# Altium schematic symbol library ETS_Library.SchLib: 127 symbols (part 1 of 3)
Pins are listed as number, name and electrical type; pins without a type are passive.

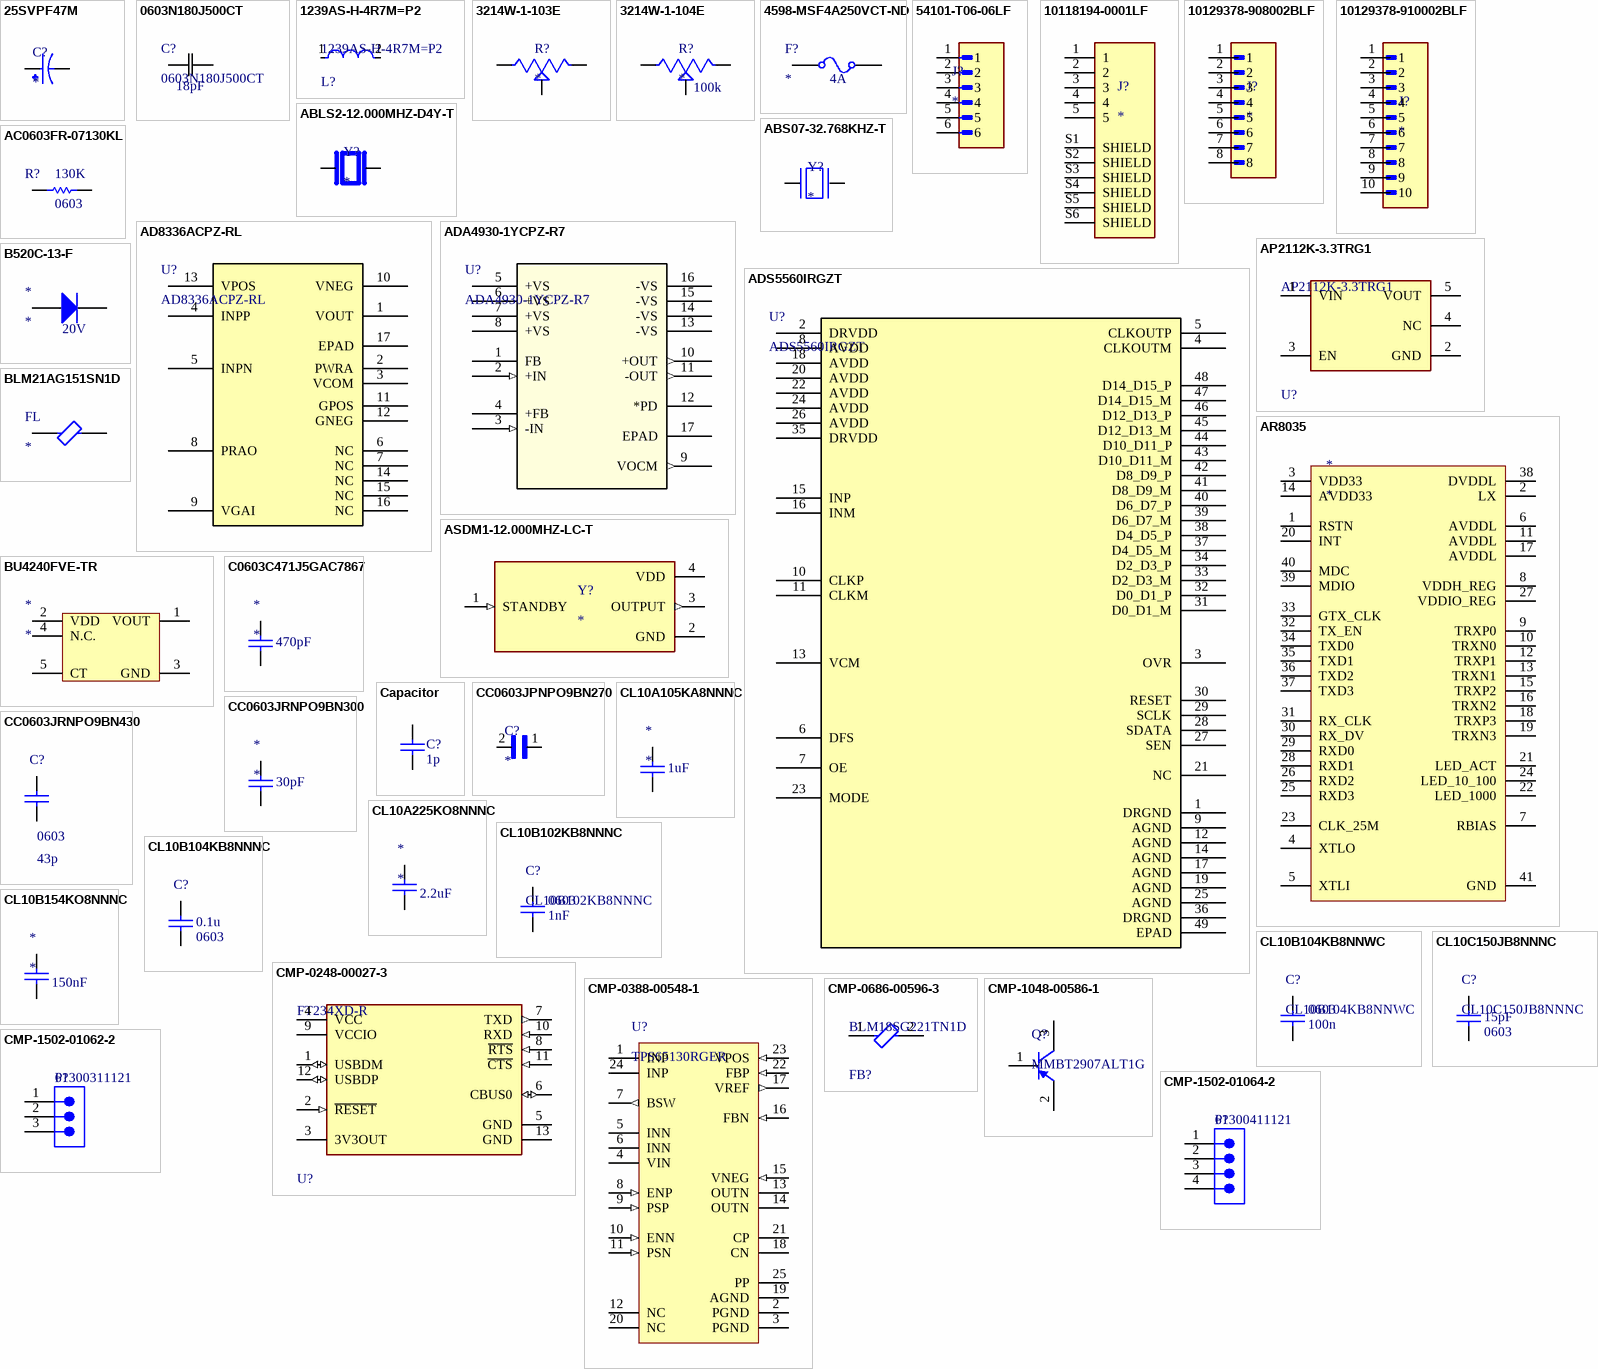
[diagram p0: symbols 25SVPF47M to CMP-1502-01064-2]

## 25SVPF47M
designator C?
MP: 25SVPF47M; Package: None; Availability: Unavailable; Value: *; Price: None
footprint CAP_25SVPF47M
pins: 1, 2

## 0603N180J500CT
designator C?  value 18pF
CAP CER 18PF 50V C0G/NP0 0603; Mfr_Name: Walsin; Type: DEV; Copyright: Copyright (C) 2024 Ultra Librarian. All rights reserved.; Manufacturer_Part_Number: 0603N180J500CT; RefDes: RefDes
footprint CAP_0603_S_WAL
pins: 1, 2

## 1239AS-H-4R7M=P2
designator L?
Shielded Wirewound Inductor 4.7uH 20% 1300mA 0.24Ω 1008 (2520); Current Rating: 1.5A; Core Material: Ferrite; DC Resistance (DCR): 240mR; Test Frequency: 1MHz; Resistor Type: Wirewound; Mount: Surface Mount; Case/Package: 1008; Case Code (Metric): 2520; Inductance: 4.7uH; Width: 0.079inch; Min Operating Temperature: -40°C; Height - Seated (Max): 0.047inch; Length: 0.098inch; Max Operating Temperature: 85°C; Tolerance: 20%; Case Code (Imperial): 1008; Shielding: Shielded; Packaging: Tape and Reel
footprint FP-DFE252012C-MFG
pins: 1, 2

## 3214W-1-103E
designator R?
10 kOhms 0.25W, 1/4W J Lead Surface Mount Trimmer Potentiometer Cermet 5.0 Turn Top Adjustment; MP: 3214W-1-103E; MF: Bourns; Value: *; SnapEDA_Link: https://www.snapeda.com/parts/3214W-1-103E/Bourns/view-part/?ref=snap; Check_prices: https://www.snapeda.com/parts/3214W-1-103E/Bourns/view-part/?ref=eda; Availability: In Stock; Price: None; Purchase-URL: https://pricing.snapeda.com/search/part/3214W-1-103E/?ref=eda; Package: NON STANDARD Bourns
footprint TRIM_3214W-1-103E
pins: 1 CCW, 2 WIPER, 3 CW

## 3214W-1-104E
designator R?  value 100k
TRIMMER 100KOHM 0.25W J LEAD TOP; MF: Bourns; MP: 3214W-1-104E; Digi-Key_Part_Number: 3214W-104ETR-ND; Package: NON STANDARD Bourns; SnapEDA_Link: https://www.snapeda.com/parts/3214W-1-104E/Bourns/view-part/?ref=snap; Purchase-URL: https://pricing.snapeda.com/search/part/3214W-1-104E/?ref=eda; Check_prices: https://www.snapeda.com/parts/3214W-1-104E/Bourns/view-part/?ref=eda
footprint TRIM_3214W-1-104E
pins: 1 CCW, 2 WIPER, 3 CW

## 4598-MSF4A250VCT-ND
designator F?  Current: 4A
MSF 4A 250V; Manufacturer: Schurter; Manufacturer Part Number: 0034.6020; Body Material: Thermoplastic; Material: Copper,Tin,Plastic; Fuse Type: Board Mount (Cartridge Style Excluded); Max Power Dissipation: 1.68W; Dropout Voltage: 60mV; Fuse Size: 8.5 X 8.5mm; Wire/Cable Diameter: 0.64mm; Body Diameter: 8.5mm; Lead Length: 4.3mm; Approvals: UL,CSA,IEC,EN; Supplier: Avnet; Supplier Part Number: 31C2026; RoHS: Yes; Category: Fuses; Stock: 824; Pricing: 1=0.503, 10=0.486, 25=0.469 (USD); Mounting Technology: Through Hole,PCB; Case/Package: Radial; Pins: 2; Weight: 0.014815oz; Housing Material: Thermoplastic; Min Operating Temperature: -55°C; Max Operating Temperature: 85°C; Current Rating: 4A; Voltage Rating (AC): 250V; Voltage Rating: 250V; Voltage Rating (DC): 250V; Package Quantity: 100; Termination: Radial; Series: MSF 250; Packaging: Bulk; Fuse Current: 4A; Max Voltage Rating (AC): 250V; Max Voltage Rating (DC): 250V; Power Dissipation: 1.68W; Length: 0.335inch; Body Height: 8.5mm; Radiation Hardening: No; Lead Free: Lead Free; Flammability Rating: UL94 V-0; RoHS Compliant: Yes; Reach SVHC Compliant: No; ComponentLink1URL: https://datasheet.ciiva.com/14171/uqmsf250-data-e-14171926.pdf?src-supplier=Distrelec; ComponentLink1Description: https://datasheet.ciiva.com/14171/uqmsf250-data-e-14171926.pdf?src-supplier=Distrelec; ComponentLink2URL: https://datasheet.ciiva.com/14537/70160027-14537274.pdf?src-supplier=Allied+Electronics; ComponentLink2Description: https://datasheet.ciiva.com/14537/70160027-14537274.pdf?src-supplier=Allied+Electronics; ComponentLink3URL: https://datasheet.ciiva.com/16214/typ-msf-250-16214554.pdf?src-supplier=Onlinecomponents.com; ComponentLink3Description: https://datasheet.ciiva.com/16214/typ-msf-250-16214554.pdf?src-supplier=Onlinecomponents.com; ComponentLink4URL: https://datasheet.ciiva.com/30173/typ-msf-250-30173325.pdf?src-supplier=Onlinecomponents.com; ComponentLink4Description: https://datasheet.ciiva.com/30173/typ-msf-250-30173325.pdf?src-supplier=Onlinecomponents.com; ComponentLink5URL: https://datasheet.ciiva.com/8055/1348407-8055852.pdf?src-supplier=Element14; ComponentLink5Description: https://datasheet.ciiva.com/8055/1348407-8055852.pdf?src-supplier=Element14; ComponentLink6URL: https://datasheet.ciiva.com/26837/getdatasheetpartid-420672-26837350.pdf?src-supplier=Verical; ComponentLink6Description: https://datasheet.ciiva.com/26837/getdatasheetpartid-420672-26837350.pdf?src-supplier=Verical; ComponentLink7URL: https://datasheet.ciiva.com/3017/typ-msf-250-3017129.pdf?src-supplier=Avnet; ComponentLink7Description: https://datasheet.ciiva.com/3017/typ-msf-250-3017129.pdf?src-supplier=Avnet
footprint MSF 4A 250V
pins: 1, 2

## 54101-T06-06LF
designator J?
BergStikÂ®, Board to Board connector, Unshrouded vertical Header, Through Hole, Single Row, 6 Positions, 2.54 mm Pitch.; MP: 54101-T06-06LF; MF: Amphenol ICC (FCI); Purchase-URL: https://pricing.snapeda.com/search/part/54101-T06-06LF/?ref=eda; SnapEDA_Link: https://www.snapeda.com/parts/54101-T06-06LF/Amphenol+FCI/view-part/?ref=snap; Value: *; Package: None; Price: None; Availability: In Stock; Check_prices: https://www.snapeda.com/parts/54101-T06-06LF/Amphenol+FCI/view-part/?ref=eda
footprint AMPHENOL_54101-T06-06LF
pins: 1, 2, 3, 4, 5, 6

## 10118194-0001LF
designator J?
Micro USB, Input Output Connectors, B TYPE RECEPTACLE with flange; MF: Amphenol ICC; MP: 10118194-0001LF; Package: None; Price: None; Check_prices: https://www.snapeda.com/parts/10118194-0001LF/Amphenol+FCI/view-part/?ref=eda; Value: *; SnapEDA_Link: https://www.snapeda.com/parts/10118194-0001LF/Amphenol+FCI/view-part/?ref=snap; Availability: In Stock; Purchase-URL: https://pricing.snapeda.com/search/part/10118194-0001LF/?ref=eda
footprint AMPHENOL_10118194-0001LF
pins: 1, 2, 3, 4, 5, S1 SHIELD, S2 SHIELD, S3 SHIELD, S4 SHIELD, S5 SHIELD, S6 SHIELD

## 10129378-908002BLF
designator J?
EconoStik&trade; 2.54mm, Board to Board Connector, Unshrouded Verticl Header, Through Hole, Single Row, 8 Positions, 2.54 mm (0.100in) Pitch.; MF: Amphenol; MP: 10129378-908002BLF; SnapEDA_Link: https://www.snapeda.com/parts/10129378-908002BLF/Amphenol/view-part/?ref=snap; Package: None; Value: *; Check_prices: https://www.snapeda.com/parts/10129378-908002BLF/Amphenol/view-part/?ref=eda
footprint AMPHENOL_10129378-908002BLF
pins: 1, 2, 3, 4, 5, 6, 7, 8

## 10129378-910002BLF
designator J?
MP: 10129378-910002BLF; Package: None; Price: None; Value: *; Availability: Unavailable
footprint AMPHENOL_10129378-910002BLF
pins: 1, 2, 3, 4, 5, 6, 7, 8, 9, 10

## ABLS2-12.000MHZ-D4Y-T
designator Y?
HC/49US (AT49) LOW PROFILE SURFACE MOUNT MICROPROCESSOR CRYSTAL; MP: ABLS2-12.000MHZ-D4Y-T; MF: Abracon; Purchase-URL: https://pricing.snapeda.com/search/part/ABLS2-12.000MHZ-D4Y-T/?ref=eda; Package: HC49/US Abracon; Value: *; Price: None; Availability: In Stock; SnapEDA_Link: https://www.snapeda.com/parts/ABLS2-12.000MHZ-D4Y-T/Abracon+LLC/view-part/?ref=snap; Check_prices: https://www.snapeda.com/parts/ABLS2-12.000MHZ-D4Y-T/Abracon+LLC/view-part/?ref=eda
footprint XTAL_ABLS2-12.000MHZ-D4Y-T
pins: 1, 2

## ABS07-32.768KHZ-T
designator Y?
CRYSTAL 32.7680KHZ 12.5PF SMD; MF: Abracon; MP: ABS07-32.768KHZ-T; SnapEDA_Link: https://www.snapeda.com/parts/ABS07-32.768KHZ-T/Abracon+LLC/view-part/?ref=snap; Package: SMD-2 Abracon LLC; Value: *; Check_prices: https://www.snapeda.com/parts/ABS07-32.768KHZ-T/Abracon+LLC/view-part/?ref=eda
footprint XTAL_ABS07-32.768KHZ-T
pins: 1, 2

## AC0603FR-07130KL
designator R?  value 130K  Case/Package: 0603  (hidden comment: AC0603FR-07130KL)
RES SMD 130K OHM 1% 1/10W 0603; ComponentLink1URL: https://datasheet.ciiva.com:443/pdfs/VipMasterIC/IC/YAGO/YAGO-S-A0008145938/YAGO-S-A0008145938-1.pdf?src-supplier=IHS+Markit; ComponentLink1Description: https://datasheet.ciiva.com:443/pdfs/VipMasterIC/IC/YAGO/YAGO-S-A0008145938/YAGO-S-A0008145938-1.pdf?src-supplier=IHS+Markit; Supplier 1: Avnet; Supplier Part Number 1: 58AK8937
footprint R0603 (Chip Resistor, 2-Leads, Body 1.60x0.80mm, IPC Low Density)
pins: 1, 2

## AD8336ACPZ-RL
designator U?
General-Purpose, âˆ’55Â°C to +125Â°C, Wide Bandwidth, DC-Coupled VGA; Manufacturer_Name: Analog Devices Inc; Copyright: Copyright (C) 2025 Ultra Librarian. All rights reserved.; Manufacturer_Part_Number: AD8336ACPZ-RL; Datasheet: https://www.analog.com/media/en/technical-documentation/data-sheets/AD8336.pdf; RefDes: RefDes; Type: Type
footprint CP_16_4_ADI
pins: 1 VOUT, 2 PWRA, 3 VCOM, 4 INPP, 5 INPN, 6 NC, 7 NC, 8 PRAO, 9 VGAI, 10 VNEG, 11 GPOS, 12 GNEG, 13 VPOS, 14 NC, 15 NC, 16 NC, 17 EPAD

## ADA4930-1YCPZ-R7
designator U?
IC OPAMP DIFF 1 CIRCUIT 16LFCSP; Mfr_Name: Analog Devices Inc; RefDes: RefDes; Type: Type
footprint CP_16_35_ADI
pins: 1 FB, 2 +IN (in), 3 -IN (in), 4 +FB, 5 +VS (power), 6 +VS (power), 7 +VS (power), 8 +VS (power), 9 VOCM (out), 10 +OUT (out), 11 -OUT (out), 12 *PD, 13 -VS (power), 14 -VS (power), 15 -VS (power), 16 -VS (power), 17 EPAD

## ADS5560IRGZT
designator U?
16-Bit, 40-MSPS Analog-to-Digital Converter (ADC) 48-VQFN -40 to 85; Manufacturer_Name: Texas Instruments; Copyright: Copyright (C) 2025 Ultra Librarian. All rights reserved.; Manufacturer_Part_Number: ADS5560IRGZT; Datasheet: https://www.ti.com/lit/gpn/ads5560; RefDes: RefDes; Type: Type
footprint RGZ48_5P15X5P15
pins: 1 DRGND, 2 DRVDD, 3 OVR, 4 CLKOUTM, 5 CLKOUTP, 6 DFS, 7 OE, 8 AVDD, 9 AGND, 10 CLKP, 11 CLKM, 12 AGND, 13 VCM, 14 AGND, 15 INP, 16 INM, 17 AGND, 18 AVDD, 19 AGND, 20 AVDD, 21 NC, 22 AVDD, 23 MODE, 24 AVDD, 25 AGND, 26 AVDD, 27 SEN, 28 SDATA, 29 SCLK, 30 RESET, 31 D0_D1_M, 32 D0_D1_P, 33 D2_D3_M, 34 D2_D3_P, 35 DRVDD, 36 DRGND, 37 D4_D5_M, 38 D4_D5_P, 39 D6_D7_M, 40 D6_D7_P, 41 D8_D9_M, 42 D8_D9_P, 43 D10_D11_M, 44 D10_D11_P, 45 D12_D13_M, 46 D12_D13_P, 47 D14_D15_M, 48 D14_D15_P, 49 EPAD

## AP2112K-3.3TRG1
designator U?
IC REG LINEAR 3.3V 600MA SOT25; Number of Regulators: 1; Output Type: Fixed; Polarity: Positive; Min Input Voltage: 2.5V; Max Input Voltage: 6V; Accuracy: 1.5%; Quiescent Current: 55uA; Dropout Voltage: 250mV; Min Operating Temperature: -40°C; Length: 3.1mm; Output Current: 600mA; Max Operating Temperature: 85°C; Package Quantity: 1; Output Voltage: 3.3V; Width: 1.7mm; Number of Outputs: 1; Packaging: Tape and Reel; Height: 1.3mm; Lead Free: Lead Free; Max Output Current: 600mA; Case/Package: SOT-23-5; Mount: Surface Mount; Number of Pins: 5
footprint FP-SOT25-MFG
pins: 1 VIN (power), 2 GND (power), 3 EN, 4 NC, 5 VOUT (power)

## AR8035
designator *
IC ETHERNET TRANSCEIVER
footprint AR8035
pins: 1 RSTN, 2 LX, 3 VDD33, 4 XTLO, 5 XTLI, 6 AVDDL, 7 RBIAS, 8 VDDH_REG, 9 TRXP0, 10 TRXN0, 11 AVDDL, 12 TRXP1, 13 TRXN1, 14 AVDD33, 15 TRXP2, 16 TRXN2, 17 AVDDL, 18 TRXP3, 19 TRXN3, 20 INT, 21 LED_ACT, 22 LED_1000, 23 CLK_25M, 24 LED_10_100, 25 RXD3, 26 RXD2, 27 VDDIO_REG, 28 RXD1, 29 RXD0, 30 RX_DV, 31 RX_CLK, 32 TX_EN, 33 GTX_CLK, 34 TXD0, 35 TXD1, 36 TXD2, 37 TXD3, 38 DVDDL, 39 MDIO, 40 MDC, 41 GND

## ASDM1-12.000MHZ-LC-T
designator Y?
MP: ASDM1-12.000MHZ-LC-T; Value: *; Availability: Unavailable; Price: None; Package: None
footprint XTAL_ASDM1-12.000MHZ-LC-T
pins: 1 STANDBY (in), 2 GND (power), 3 OUTPUT (out), 4 VDD (power)

## B520C-13-F
designator *  Max Repetitive Reverse Voltage (Vrrm): 20V
DIODE SCHOTTKY 20V 5A SMC; Manufacturer: Diodes; Manufacturer Part Number: B520C-13-F; Max Reverse Current: 500uA; Forward Voltage: 550mV; Max Forward Surge Current (Ifsm): 100A; Polarity: Standard; Value: 300pF; Supplier: Future Electronics; Supplier Part Number: 2432300; RoHS: Yes; Category: Rectifier Diodes; Stock: 3000; Pricing: 3000=0.17, 6000=0.166, 9000=0.164, 12000=0.163, 15000=0.159 (USD); Mounting Technology: Surface Mount; Case/Package: SMC; Pins: 2; Weight: 0.007408oz; Min Operating Temperature: -55°C; Max Operating Temperature: 125°C; Forward Current: 5A; Packaging: Tape and Reel; Package Quantity: 3000; Average Rectified Current: 5A; Peak Non-Repetitive Surge Current: 100A; Termination: SMD/SMT; Voltage Rating (DC): 20V; Current Rating: 5A; Output Current: 5A; Max Reverse Voltage (DC): 20V; Series: -; Length: 7.11mm; Width: 6.22mm; Height: 2.5mm; Radiation Hardening: No; Lead Free: Lead Free; RoHS Compliant: Yes; ComponentLink1URL: https://datasheet.ciiva.com/26949/getdatasheetpartid-213968-26949361.pdf?src-supplier=Verical; ComponentLink1Description: https://datasheet.ciiva.com/26949/getdatasheetpartid-213968-26949361.pdf?src-supplier=Verical; ComponentLink2URL: https://datasheet.ciiva.com/30479/0900766b8104afce-30479360.pdf?src-supplier=Rs; ComponentLink2Description: https://datasheet.ciiva.com/30479/0900766b8104afce-30479360.pdf?src-supplier=Rs; ComponentLink3URL: https://datasheet.ciiva.com/16210/ds13012-16210687.pdf?src-supplier=Future+Electronics; ComponentLink3Description: https://datasheet.ciiva.com/16210/ds13012-16210687.pdf?src-supplier=Future+Electronics; ComponentLink4URL: https://datasheet.ciiva.com/914/ds13012-914950.pdf?src-supplier=Digikey; ComponentLink4Description: https://datasheet.ciiva.com/914/ds13012-914950.pdf?src-supplier=Digikey; ComponentLink5URL: https://datasheet.ciiva.com/914/ds13012-914951.pdf?src-supplier=Digikey; ComponentLink5Description: https://datasheet.ciiva.com/914/ds13012-914951.pdf?src-supplier=Digikey; ComponentLink6URL: https://datasheet.ciiva.com/8301/ds13012-8301455.pdf?src-supplier=Avnet; ComponentLink6Description: https://datasheet.ciiva.com/8301/ds13012-8301455.pdf?src-supplier=Avnet
footprint DIOM7959X250N
pins: 1, 2

## BLM21AG151SN1D
designator FL
FERRITE BEAD 150 OHM 0805 1LN; MF: Murata; MP: BLM21AG151SN1D; Price: None; Package: 2012 Murata; DigiKey-Purchase-URL: https://snapeda.com/shop?store=DigiKey&id=267469; Availability: Unavailable; Value: *; SnapEDA_Link: https://www.snapeda.com/parts/BLM21AG151SN1D/Murata/view-part/267469/?ref=snap
footprint IND_BLM21_MUR
footprint IND_BLM21_MUR-L
footprint IND_BLM21_MUR
footprint BEADC2012X105N
pins: 1, 2

## BU4240FVE-TR
designator *
IC SUPERVISOR 1 CHANNEL 5VSOF; Manufacturer: Rohm; Manufacturer Part Number: BU4240FVE-TR; Min Supply Voltage: 700mV; Max Supply Voltage: 7V; Max Power Dissipation: 210mW; Number of Voltages Monitored: 1; Reset: Active Low; Threshold Voltage: 4V; Max Supply Current: 1.75uA; Watchdog Timer: No; Min Reset Threshold Voltage: 3.96V; Max Reset Threshold Voltage: 4.04V; Supplier: Mouser; Supplier Part Number: 755-BU4240FVE-TR; RoHS: Yes; Category: Voltage Supervisors; Stock: 2670; Pricing: 1=0.77, 10=0.633, 50=0.633, 100=0.498, 1000=0.326, 10000=0.257 (USD); Mounting Technology: Surface Mount; Case/Package: VSOF; Pins: 5; Min Operating Temperature: -40°C; Max Operating Temperature: 125°C; Package Quantity: 3000; Packaging: Tape and Reel; Type: Simple Reset/Power-On Reset; Lead Free: Lead Free; RoHS Compliant: Yes; ComponentLink1URL: https://datasheet.ciiva.com/1968/bu42xxg-e-1968949.pdf?src-supplier=Digikey; ComponentLink1Description: https://datasheet.ciiva.com/1968/bu42xxg-e-1968949.pdf?src-supplier=Digikey; ComponentLink2URL: https://datasheet.ciiva.com/1968/bu42xxg-e-1968950.pdf?src-supplier=Digikey; ComponentLink2Description: https://datasheet.ciiva.com/1968/bu42xxg-e-1968950.pdf?src-supplier=Digikey; ComponentLink3URL: https://datasheet.ciiva.com/1968/bu42xxg-e-1968951.pdf?src-supplier=Digikey; ComponentLink3Description: https://datasheet.ciiva.com/1968/bu42xxg-e-1968951.pdf?src-supplier=Digikey
footprint SOT95P280X145-5N (SOT23, 5-Leads, Body 2.90x2.80mm, Pitch 0.95mm, IPC Medium Density)
pins: 1 VOUT, 2 VDD, 3 GND, 4 N.C., 5 CT

## C0603C471J5GAC7867
designator *  value 470pF
CAP CER 470PF 50V C0G/NP0 0603; Manufacturer: KEMET; Manufacturer Part Number: C0603C471J5GACTU; Dielectric Material: Ceramic; Multilayer: Yes; Tolerance  (fill in as +-): 5%; Temperature Characteristics Code: C0G; Supplier: Mouser; Supplier Part Number: 80-C0603C471J5G; RoHS: Yes; Category: Ceramic Capacitors; Stock: 274722; Pricing: 1=0.1, 10=0.028, 50=0.028, 100=0.017, 1000=0.013, 10000=0.009 (USD); Mounting Technology: Surface Mount; Pins: 2; Package Shape: Rectangular; Case/Package: 0603; Terminal Finish: Nickel; Min Operating Temperature: -55°C; Max Operating Temperature: 125°C; JESD-609 Code: e3; Capacitor Type: Ceramic; Package Style: SMTMeter; Packaging: Tape and Reel; Tolerance (fill in as +-): 5%; Rated DC Voltage (URdc): 50V; Termination: Wraparound; Length: 1.6mm; Width: 0.8mm; Height: 0.8mm; Reach SVHC Compliant: Yes; RoHS Compliant: Yes; ComponentLink1URL: https://datasheet.ciiva.com:443/pdfs/VipMasterIC/IC/KEME/KEME-S-A0007731554/KEME-S-A0007723451-1.pdf?src-supplier=IHS+Markit; ComponentLink1Description: https://datasheet.ciiva.com:443/pdfs/VipMasterIC/IC/KEME/KEME-S-A0007731554/KEME-S-A0007723451-1.pdf?src-supplier=IHS+Markit; ComponentLink2URL: https://datasheet.ciiva.com/22749/1372242-22749673.pdf?src-supplier=Element14; ComponentLink2Description: https://datasheet.ciiva.com/22749/1372242-22749673.pdf?src-supplier=Element14; ComponentLink3URL: https://datasheet.ciiva.com/7824/f9080b-0402-series-c0g-7824038.pdf?src-supplier=Element14; ComponentLink3Description: https://datasheet.ciiva.com/7824/f9080b-0402-series-c0g-7824038.pdf?src-supplier=Element14; ComponentLink4URL: https://datasheet.ciiva.com/28688/1789732-28688661.pdf?src-supplier=Element14; ComponentLink4Description: https://datasheet.ciiva.com/28688/1789732-28688661.pdf?src-supplier=Element14
pins: 1, 2

## Capacitor
designator C?  value 1p  (hidden comment: Capacitor)
SimulationGenericComponent: True
simulation model C_Capacitor_Default (CAP)
pins: 1, 2

## CC0603JPNPO9BN270
designator C?
KC 27pF 0603 5% 50V NP0; MP: CC0603JPNPO9BN270; Package: None; Price: None; Value: *; Availability: Unavailable
footprint CAPC1608X90
pins: 1, 2

## CC0603JRNPO9BN300
designator *  value 30pF
CAP CER 30PF 50V C0G/NPO 0603; Manufacturer: Yageo; Manufacturer Part Number: CC0603JRNPO9BN300; Dielectric Material: Ceramic; Multilayer: Yes; Tolerance  (fill in as +-): 5%; Temperature Characteristics Code: C0G; Supplier: Arrow Electronics; Supplier Part Number: CC0603JRNPO9BN300; RoHS: Yes; Category: Ceramic Capacitors; Stock: 84000; Pricing: 4000=0.01, 8000=0.006 (USD); Mounting Technology: Surface Mount; Pins: 2; Package Shape: Rectangular; Case/Package: 0603; Terminal Finish: Nickel; Min Operating Temperature: -55°C; Max Operating Temperature: 125°C; JESD-609 Code: e3; Capacitor Type: Ceramic; Packaging: Tape and Reel; Tolerance (fill in as +-): 5%; Rated DC Voltage (URdc): 50V; Termination: Wraparound; Reach SVHC Compliant: Yes; RoHS Compliant: Yes; ComponentLink1URL: https://datasheet.ciiva.com:443/pdfs/VipMasterIC/IC/YAGO/YAGOS02763/YAGOS02763-1.pdf?src-supplier=IHS+Markit; ComponentLink1Description: https://datasheet.ciiva.com:443/pdfs/VipMasterIC/IC/YAGO/YAGOS02763/YAGOS02763-1.pdf?src-supplier=IHS+Markit; ComponentLink2URL: https://datasheet.ciiva.com/26862/getdatasheetpartid-403531-26862766.pdf?src-supplier=Verical; ComponentLink2Description: https://datasheet.ciiva.com/26862/getdatasheetpartid-403531-26862766.pdf?src-supplier=Verical; ComponentLink3URL: https://datasheet.ciiva.com/13264/upy-gp-np0-16v-to-50v-8-3714-13264406.pdf?src-supplier=Mouser; ComponentLink3Description: https://datasheet.ciiva.com/13264/upy-gp-np0-16v-to-50v-8-3714-13264406.pdf?src-supplier=Mouser; ComponentLink4URL: https://datasheet.ciiva.com/7978/1132289-7978140.pdf?src-supplier=Element14; ComponentLink4Description: https://datasheet.ciiva.com/7978/1132289-7978140.pdf?src-supplier=Element14; ComponentLink5URL: https://datasheet.ciiva.com/28450/1443161-28450494.pdf?src-supplier=Element14; ComponentLink5Description: https://datasheet.ciiva.com/28450/1443161-28450494.pdf?src-supplier=Element14
footprint CAPC1608X90
pins: 1, 2

## CC0603JRNPO9BN430
designator C?  value 43p  Package: 0603  (hidden comment: CC0603JRNPO9BN430)
CAP CER 43PF 50V C0G/NPO 0603; Price: None; MP: CC0603JRNPO9BN430; Availability: Unavailable
footprint CAPC1608X90
pins: 1, 2

## CL10A105KA8NNNC
designator *  value 1uF
CAP CER 1UF 25V X5R 0603; Manufacturer: Samsung; Manufacturer Part Number: CL10A105KA8NNNC; Dielectric Material: Ceramic; Multilayer: Yes; Tolerance  (fill in as +-): 10%; Supplier: Arrow Electronics; Supplier Part Number: CL10A105KA8NNNC; RoHS: Yes; Category: Ceramic Capacitors; Stock: 444000; Pricing: 4000=0.0054, 8000=0.0044, 28000=0.0037, 100000=0.0034, 200000=0.0032 (USD); Mounting Technology: Surface Mount; Pins: 2; Package Shape: Rectangular; Case/Package: 0603; Terminal Finish: Nickel; Min Operating Temperature: -55°C; Max Operating Temperature: 85°C; JESD-609 Code: e3; Capacitor Type: Ceramic; Package Style: SMTMeter; Packaging: Tape and Reel; Tolerance (fill in as +-): 10%; Rated DC Voltage (URdc): 25V; Temperature Characteristics Code: X5R; Termination: Wraparound; Length: 1.6mm; Width: 0.8mm; Height: 0.9mm; Reach SVHC Compliant: Yes; RoHS Compliant: Yes; ComponentLink1URL: https://datasheet.ciiva.com:443/pdfs/VipMasterIC/IC/SEMS/SEMS-S-A0008520814/SEMS-S-A0008520762-1.pdf?src-supplier=IHS+Markit; ComponentLink1Description: https://datasheet.ciiva.com:443/pdfs/VipMasterIC/IC/SEMS/SEMS-S-A0008520814/SEMS-S-A0008520762-1.pdf?src-supplier=IHS+Markit; ComponentLink2URL: https://datasheet.ciiva.com/25801/cl10a105ka8nnnc-25801364.pdf?src-supplier=Digikey; ComponentLink2Description: https://datasheet.ciiva.com/25801/cl10a105ka8nnnc-25801364.pdf?src-supplier=Digikey; ComponentLink3URL: https://datasheet.ciiva.com/26838/getdatasheetpartid-357530-26838332.pdf?src-supplier=Verical; ComponentLink3Description: https://datasheet.ciiva.com/26838/getdatasheetpartid-357530-26838332.pdf?src-supplier=Verical; ComponentLink4URL: https://datasheet.ciiva.com/29198/458162-da-01-en-vs-kondensator-0603-29198475.pdf?src-supplier=Conrad; ComponentLink4Description: https://datasheet.ciiva.com/29198/458162-da-01-en-vs-kondensator-0603-29198475.pdf?src-supplier=Conrad
footprint ANTC1608X90N
pins: 1, 2

## CL10A225KO8NNNC
designator *  value 2.2uF
CAP CER 2.2UF 16V X5R 0603; Manufacturer: Samsung; Manufacturer Part Number: CL10A225KO8NNNC; Dielectric Material: Ceramic; Multilayer: Yes; Tolerance  (fill in as +-): 10%; Supplier: Arrow Electronics; Supplier Part Number: CL10A225KO8NNNC; RoHS: Yes; Category: Ceramic Capacitors; Stock: 1492000; Pricing: 4000=0.0119, 8000=0.0101, 12000=0.0092, 28000=0.0082, 100000=0.0069, 200000=0.0066 (USD); Mounting Technology: Surface Mount; Pins: 2; Package Shape: Rectangular; Case/Package: 0603; Terminal Finish: Nickel; Min Operating Temperature: -55°C; Max Operating Temperature: 85°C; JESD-609 Code: e3; Capacitor Type: Ceramic; Package Style: SMTMeter; Packaging: Tape and Reel; Tolerance (fill in as +-): 10%; Rated DC Voltage (URdc): 16V; Temperature Characteristics Code: X5R; Termination: Wraparound; Length: 1.6mm; Width: 0.8mm; Height: 0.9mm; Reach SVHC Compliant: Yes; RoHS Compliant: Yes; ComponentLink1URL: https://datasheet.ciiva.com:443/pdfs/VipMasterIC/IC/SEMS/SEMS-S-A0008524842/SEMS-S-A0008524788-1.pdf?src-supplier=IHS+Markit; ComponentLink1Description: https://datasheet.ciiva.com:443/pdfs/VipMasterIC/IC/SEMS/SEMS-S-A0008524842/SEMS-S-A0008524788-1.pdf?src-supplier=IHS+Markit; ComponentLink2URL: http://www.farnell.com/datasheets/2735906.pdf?src-supplier=Newark; ComponentLink2Description: http://www.farnell.com/datasheets/2735906.pdf?src-supplier=Newark
footprint ANTC1608X90N
pins: 1, 2

## CL10B102KB8NNNC
designator C?  value 1nF  Package: 0603
CAP CER 1000PF 50V X7R 0603; Manufacturer: Samsung; Material: Ceramic; Tolerance: 10%; Supplier: Arrow Electronics; Supplier Part Number: CL10B102KB8NNNC; Manufacturer Part Number: CL10B102KB8NNNC; RoHS: Yes; Category: Ceramic Capacitors; Stock: 8676000; Pricing: 4000=0.006, 8000=0.004, 28000=0.0039, 100000=0.0035 (USD); Mounting Technology: Surface Mount; Case Code (Metric): 1608; Case Code (Imperial): 0603; Min Operating Temperature: -55°C; Max Operating Temperature: 125°C; Dielectric: X7R; Package Quantity: 1; Packaging: Tape and Reel; Voltage Rating: 50V; Voltage: 50V; Voltage Rating (DC): 50V; Series: CL; Construction: Flat; Length: 1.6mm; Width: 0.031inch; Height: 0.8mm; Thickness: 0.035inch; Depth: 0.8mm; Radiation Hardening: No; Lead Free: Lead Free; RoHS Compliant: Yes; ComponentLink1URL: https://datasheet.ciiva.com/25805/cl10b102kb8nnnc-25805137.pdf?src-supplier=Digikey; ComponentLink1Description: https://datasheet.ciiva.com/25805/cl10b102kb8nnnc-25805137.pdf?src-supplier=Digikey; ComponentLink2URL: https://datasheet.ciiva.com/15216/getdatasheetpartid-359690-15216231.pdf?src-supplier=Verical; ComponentLink2Description: https://datasheet.ciiva.com/15216/getdatasheetpartid-359690-15216231.pdf?src-supplier=Verical; ComponentLink3URL: https://datasheet.ciiva.com/29198/458300-da-01-en-vs-kondensator-0603-29198498.pdf?src-supplier=Conrad; ComponentLink3Description: https://datasheet.ciiva.com/29198/458300-da-01-en-vs-kondensator-0603-29198498.pdf?src-supplier=Conrad; ComponentLink4URL: https://datasheet.ciiva.com/26310/mlcc-catalogdownload2013-eng-26310326.pdf?src-supplier=Distrelec; ComponentLink4Description: https://datasheet.ciiva.com/26310/mlcc-catalogdownload2013-eng-26310326.pdf?src-supplier=Distrelec; ComponentLink5URL: https://datasheet.ciiva.com/16199/cl05b104kq5nnnc-16199064.pdf?src-supplier=Future+Electronics; ComponentLink5Description: https://datasheet.ciiva.com/16199/cl05b104kq5nnnc-16199064.pdf?src-supplier=Future+Electronics
footprint C0603-V2
pins: 1, 2

## CL10B104KB8NNNC
designator C?  value 0.1u  Package: 0603  (hidden comment: CL10B104KB8NNNC)
CAP CER 0.1UF 50V X7R 0603; MF: Samsung Electro-Mechanics; Price: None; MP: CL10B104KB8NNNC; SnapEDA_Link: https://www.snapeda.com/parts/CL10B104KB8NNNC/Samsung%20Electro-Mechanics/view-part/3598309/?ref=snap; Availability: Unavailable
footprint CAPC1608X90N
pins: 1, 2

## CL10B104KB8NNWC
designator C?  value 100n  Package: 0603
CAP CER 0.1UF 50V X7R 0603; Manufacturer: Samsung; Tolerance: 10%; Supplier: Arrow Electronics; Supplier Part Number: CL10B104KB8NNWC; Manufacturer Part Number: CL10B104KB8NNWC; RoHS: Yes; Category: Ceramic Capacitors; Stock: 4312000; Pricing: 4000=0.0024 (USD); Mounting Technology: Surface Mount; Case Code (Metric): 1608; Case Code (Imperial): 0603; Min Operating Temperature: -55°C; Max Operating Temperature: 125°C; Package Quantity: 1; Packaging: Cut Tape; Voltage Rating: 50V; Series: CL; Length: 0.063inch; Width: 0.031inch; Thickness: 0.035inch; RoHS Compliant: Yes; ComponentLink1URL: https://datasheet.ciiva.com/25740/cl10b104kb8nnwc-25740227.pdf?src-supplier=Digikey; ComponentLink1Description: https://datasheet.ciiva.com/25740/cl10b104kb8nnwc-25740227.pdf?src-supplier=Digikey
footprint C0603-V2
pins: 1, 2

## CL10B154KO8NNNC
designator *  value 150nF
Cap Ceramic 0.15uF 16V X7R 10% SMD 0603 125C T/R; Manufacturer: Samsung; Manufacturer Part Number: CL10B154KO8NNNC; Supplier: Arrow Electronics; Supplier Part Number: CL10B154KO8NNNC; RoHS: Yes; Category: Ceramic Capacitors; Stock: 128000; Pricing: 100000=0.0051, 200000=0.005, 400000=0.0049 (USD); Mounting Technology: Surface Mount; Case/Package: 0603; Case Code (Metric): 1608; Case Code (Imperial): 0603; Min Operating Temperature: -55°C; Max Operating Temperature: 125°C; Packaging: Tape and Reel; Voltage Rating: 16V; Package Quantity: 1; Dielectric: X7R; Series: CL; Construction: Flat; Tolerance: 10%; Voltage: 16V; Length: 1.6mm; Width: 0.031inch; Height: 0.8mm; Thickness: 0.035inch; Depth: 0.8mm; Radiation Hardening: No; RoHS Compliant: Yes; ComponentLink1URL: https://datasheet.ciiva.com/16456/cl10b154ko8nnnc-16456706.pdf?src-supplier=Future+Electronics; ComponentLink1Description: https://datasheet.ciiva.com/16456/cl10b154ko8nnnc-16456706.pdf?src-supplier=Future+Electronics; ComponentLink2URL: https://datasheet.ciiva.com/26877/getdatasheetpartid-641045-26877902.pdf?src-supplier=Verical; ComponentLink2Description: https://datasheet.ciiva.com/26877/getdatasheetpartid-641045-26877902.pdf?src-supplier=Verical
footprint CAPC1608X90N (Chip Resistor, Body 1.6x0.8mm, Height 0.9mm)
pins: 1, 2

## CL10C150JB8NNNC
designator C?  value 15pF  Packaging: 0603
CAP CER 15PF 50V C0G/NP0 0603; Supplier 1: DigiKey; Supplier Part Number 1: 1276-1296-1-ND
footprint C0603-V2
pins: 1, 2

## CMP-0248-00027-3
designator U?, comment FT234XD-R
IC USB SERIAL BASIC UART 12DFN; Min Supply Voltage: 2.97V; Number of Ports: 1; Operating Supply Voltage: 5V; Operating Supply Current: 8mA; Max Supply Voltage: 5.5V; Data Rate: 3Mbps; Length: 3mm; Case/Package: DFN; Mount: Surface Mount; Packaging: Tape and Reel; Max Operating Temperature: 85°C; Height: 0.75mm; Number of Pins: 12; Number of Transceivers: 1; Package Quantity: 5000; Min Operating Temperature: -40°C; Width: 3mm; REACH SVHC: No SVHC; Interface: UART; Lead Free: Lead Free
footprint FP-DFN-12-MFG
footprint FP-DFN-12-IPC_A
footprint FP-DFN-12-IPC_C
footprint FP-DFN-12-IPC_B
pins: 1 USBDM (io), 2 ~{RESET} (in), 3 3V3OUT (power), 4 VCC (power), 5 GND (power), 6 CBUS0 (io), 7 TXD (out), 8 ~{RTS} (in), 9 VCCIO (power), 10 RXD (in), 11 ~{CTS} (in), 12 USBDP (io), 13 GND (power)

## CMP-0388-00548-1
designator U?, comment TPS65130RGER
Postive and Negative Output DC-DC Converter, 2.7 to 5.5 V, -40 to 85 degC, 24-pin QFN (RGE24), Green (RoHS & no Sb/Br); Manufacturer: Texas Instruments; SubFamily: LCD/OLED Display Bias Solutions; Rating: Catalog; Vin(Max)(V): 5.5; Topology: Boost, Inverting Buck/Boost; Vin(Min)(V): 2.7; Switching Frequency(Typ)(kHz): 1400; Iq(Typ)(mA): 0.5; PackageVersion: 4204104/G; PartNumber: TPS65130RGER; ComponentLink1URL: http://www.ti.com/; ComponentLink2Description: Datasheet; ComponentLink1Description: Manufacturer URL; DatasheetVersion: SLVS493B; Eco-Plan: Green (RoHS & no Sb/Br); PackageReference: RGE24-2450X2450TP; ComponentLink2URL: http://www.ti.com/general/docs/lit/getliterature.tsp?genericPartNumber=TPS65130&fileType=pdf; Code_JEDEC: MO-220; ComponentLink3URL: http://www.ti.com/litv/pdf/mpqf124f; PackageDescription: 24-Pin Plastic Flat Pack, Body 4 x 4 mm, 0.5 mm Pitch; ComponentLink3Description: Package Specification; Mounting Technology: Surface Mount
footprint TI-RGE24-2450X2450TP_V (QFN, 24-Leads, Body 4x4mm, Pitch 0.5mm, Thermal Pad 2.45x2.45mm)
pins: 1 INP (power) "Boost converter switch input.", 2 PGND (power) "Power ground pin", 3 PGND (power) "Power ground pin", 4 VIN (power) "Control supply input", 5 INN (power) "Inverting converter switch input", 6 INN (power) "Inverting converter switch input", 7 BSW (out) "Gate control pin for external battery switch. This pin goes low when ENP is set high.", 8 ENP (in) "Enable pin for the positive output voltage (0 V: disabled, VIN: enabled)", 9 PSP (in) "Power-save mode enable for boost converter stage (0 V: disabled, VIN: enabled)", 10 ENN (in) "Enable pin for the negative output voltage (0 V: disabled, VIN: enabled)", 11 PSN (in) "Power-save mode enable for inverter stage (0 V: disabled, VIN: enabled)", 12 NC "Not connected", 13 OUTN (power) "Inverting converter switch output.", 14 OUTN (power) "Inverting converter switch output.", 15 VNEG (in) "Negative output voltage sense input", 16 FBN (in) "Feedback pin for the negative output voltage divider", 17 VREF (out) "Reference output voltage. Bypass this pin with a 220-nF capacitor to ground. Connect the lower resistor of the negative output voltage divider to this pin", 18 CN "Compensation pin for inverting converter control", 19 AGND (power) "Analog ground pin", 20 NC "Not connected", 21 CP "Compensation pin for boost converter control", 22 FBP (in) "Feedback pin for the positive output voltage divider", 23 VPOS (in) "Positive output voltage sense input", 24 INP (power) "Boost converter switch input.", 25 PP (power) "Must be soldered to achieve appropriate power dissipation and for mechanical reasons. Must be connected to GND."

## CMP-0686-00596-3
designator FB?, comment BLM18SG221TN1D
Chip Ferrite Bead, 0603, 220Ω @ 100MHz, 25%, 0.04Ω, 2.5A; Impedance: 220R; DC Resistance-Max: 40mR; Number of Circuits: 1; Test Frequency: 100MHz; Material: Ferrite; Lead Free: Lead Free; Width: 0.8mm; Max Current Rating: 2.5A; Termination: SMD/SMT; Depth: 0.95mm; Packaging: Tape and Reel; Case Code (Metric): 1608; DC Current: 2.5A; Weight: 7.1E-05oz; Min Operating Temperature: -55°C; DC Resistance (DCR): 40mR; Max Operating Temperature: 125°C; Core Material: Ferrite; Max DC Current: 2.5A; Case/Package: 0603; REACH SVHC: No SVHC; Height: 0.8mm; Number of Pins: 2; Tolerance: 25%; RoHS Compliant: Yes; Radiation Hardening: No; Current Rating: 2.5A; Number of Lines: 1; Series: BLM18S; Case Code (Imperial): 0603; Length: 1.6mm; Package Quantity: 1
footprint FP-BLM18-0_15-t0_5-IPC_C
footprint FP-BLM18-0_15-t0_5-MFG
footprint FP-BLM18-0_15-t0_5-IPC_A
footprint FP-BLM18-0_15-t0_5-IPC_B
pins: 1, 2

## CMP-1048-00586-1
designator Q?, comment MMBT2907ALT1G
General Purpose Transistor, PNP Silicon, 3-Pin SOT-23, Pb-Free, Tape and Reel; Manufacturer: On Semiconductor; fT Min (MHz): 200; IC Continuous (A): -0.6; Mounting Technology: Surface Mount; DatasheetVersion: Rev. 13; PackageReference: SOT-23-3-318-08; PackageDescription: 3-Pin Small Outline Transistor, Body 2.92 x 1.3 mm, Pitch 0.95 mm; ComponentLink1URL: http://www.onsemi.com/; ComponentLink1Description: Manufacturer URL; Polarity: PNP; ComponentLink3Description: Package Specification; Packing: Tape and Reel; RoHS: TRUE; PackageVersion: Rev. AP, 11/2009; ComponentLink2Description: Datasheet; ComponentLink3URL: http://www.onsemi.cn/pub_link/Collateral/318-08.PDF; PartNumber: MMBT2907ALT1G; ComponentLink2URL: http://www.onsemi.cn/pub_link/Collateral/MMBT2907ALT1-D.PDF
footprint ONSC-SOT-23-3-318-08_V (SOT23, 3-Leads, Body 2.92x1.3mm, Pitch 0.95mm)
pins: 1 B, 2 E, 3 C

## CMP-1502-01062-2
designator P?, comment 61300311121
NexarPartId: 32855521; Voltage Rating: 250V; Current Rating: 3A; Connector Type: Male Pin; Number of Positions: 3; Gender: Male; Contact Resistance: 20mΩ; Pitch: 2.54mm; Max Operating Temperature: 105°C; Lead Pitch: 2.54mm; Lead Free: Lead Free; Contact Mating Length: 5.9944mm; Contact Material: Copper; Number of Pins: 3; Orientation: Vertical; Height: 8.94mm; Packaging: Bulk; Min Operating Temperature: -40°C; Mount: Through Hole; RoHS: Compliant; Number of Contacts: 3; Operating Supply Voltage: 250V; Termination: Solder; Number of Rows: 1; Contact Plating: Gold; Color: Black; REACH SVHC: Unknown
footprint 61300311121 (Pin Header, pitch 2.54 mm, THT, Vertical, single row, 3p)
pins: 1, 2, 3

## CMP-1502-01064-2
designator P?, comment 61300411121
NexarPartId: 32855522; Pitch: 2.54mm; Number of Contacts: 4; Contact Resistance: 20mΩ; Gender: Male; Current Rating: 3A; Connector Type: Male Pin; Voltage Rating: 250V; Lead Free: Lead Free; Contact Plating: Gold; Max Operating Temperature: 105°C; Packaging: Bulk; Height: 8.89mm; Orientation: Vertical; Contact Mating Length: 5.9944mm; Contact Material: Copper; Lead Pitch: 2.54mm; Min Operating Temperature: -40°C; Termination: Solder; Color: Black; Number of Rows: 1; REACH SVHC: Unknown; RoHS: Compliant; Mount: Through Hole; Number of Positions: 4; Number of Pins: 4; Operating Supply Voltage: 250V
footprint 61300411121 (Pin Header, pitch 2.54 mm, THT, Vertical, single row, 4p)
pins: 1, 2, 3, 4

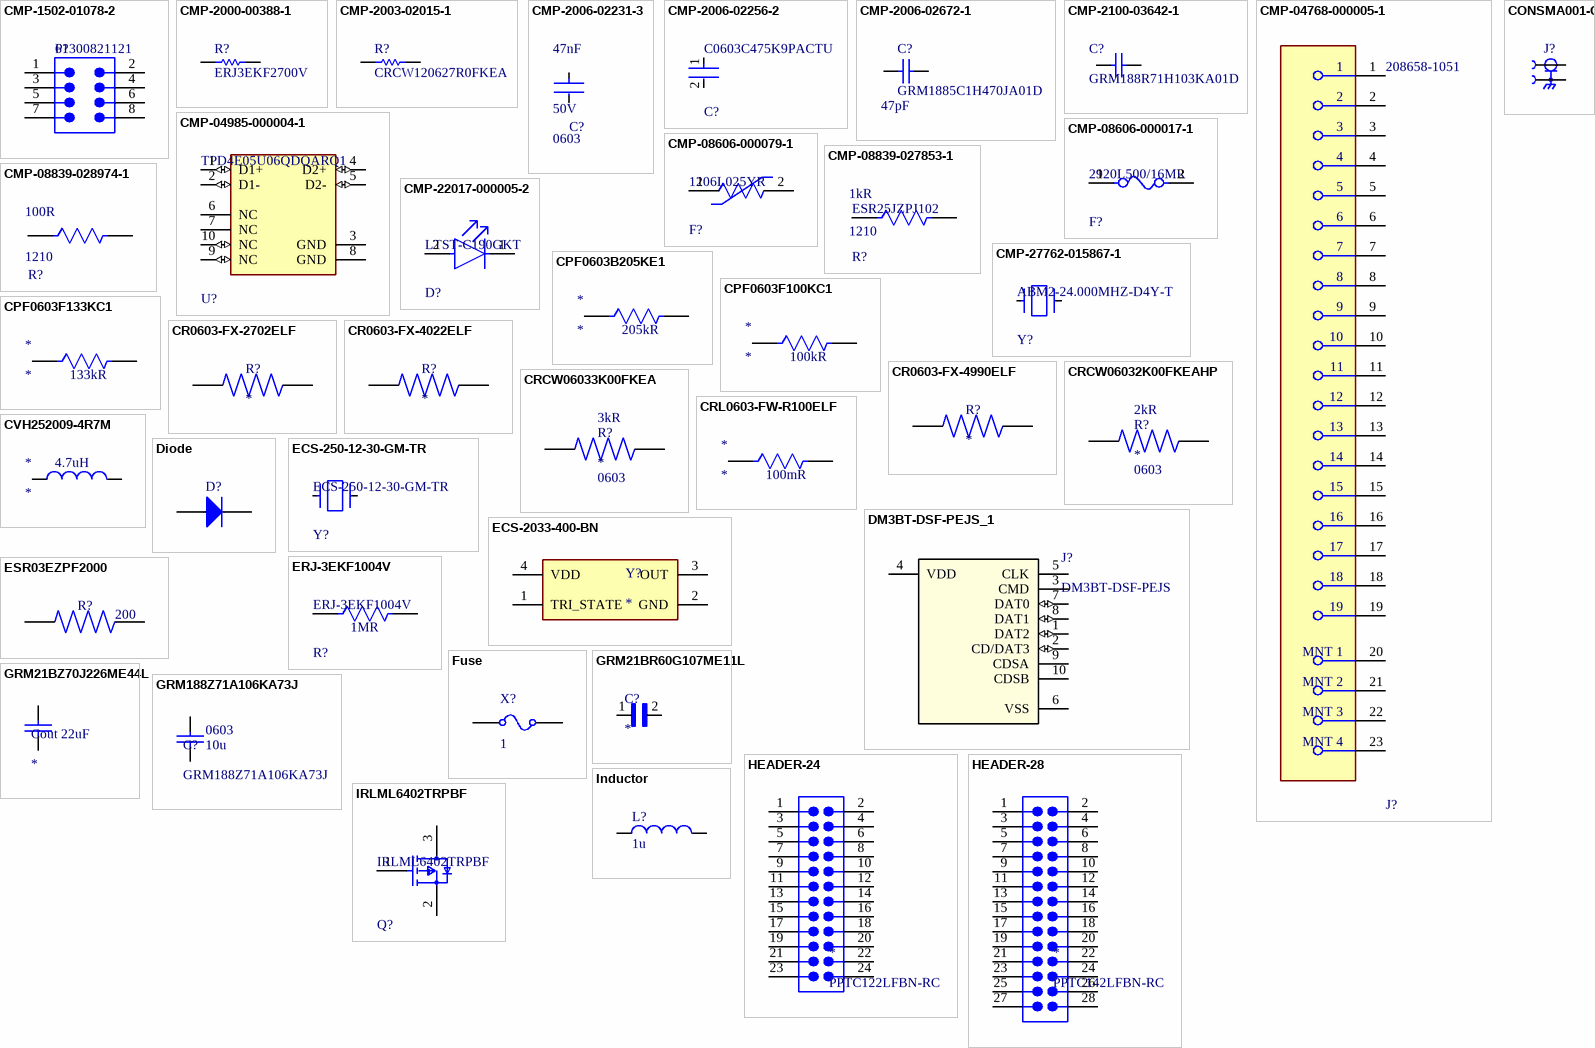
[diagram p1: symbols CMP-1502-01078-2 to IRLML6402TRPBF]

## CMP-1502-01078-2
designator P?, comment 61300821121
NexarPartId: 32855534; Operating Supply Voltage: 250V; Row Spacing: 2.54mm; Contact Resistance: 20mΩ; Number of Contacts: 8; Current Rating: 3A; Connector Type: Male Pin; Gender: Male; Min Operating Temperature: -40°C; Number of Pins: 8; Mount: Through Hole; Height: 8.89mm; Lead Pitch: 2.54mm; Contact Mating Length: 5.9944mm; Packaging: Bulk; Pitch: 2.54mm; RoHS: Compliant; Number of Rows: 2; REACH SVHC: Unknown; Termination: Solder; Orientation: Vertical; Contact Plating: Gold; Max Operating Temperature: 105°C; Number of Positions: 8; Lead Free: Lead Free; Contact Material: Copper; Color: Black; Voltage Rating: 250V
footprint 61300821121 (Pin Header, pitch 2.54 mm, THT, Vertical, dual row, 8p)
pins: 1, 2, 3, 4, 5, 6, 7, 8

## CMP-2000-00388-1
designator R?, comment ERJ3EKF2700V
Manufacturer: Panasonic; Part Number: ERJ3EKF2700V
footprint RESC1608X55X30NL15T15 (Chip Resistor, 2-Leads, Body 1.60x0.80mm, IPC Medium Density)
footprint RESC1608X55X30ML15T15 (Chip Resistor, 2-Leads, Body 1.60x0.80mm, IPC Low Density)
footprint RESC1608X55X30LL15T15 (Chip Resistor, 2-Leads, Body 1.60x0.80mm, IPC High Density)
pins: 1, 2
1 alternate drawing of the same symbol

## CMP-2003-02015-1
designator R?, comment CRCW120627R0FKEA
Manufacturer: Vishay Dale; Part Number: CRCW120627R0FKEA
footprint RESC3216X60X45ML10T20 (Chip Resistor, 2-Leads, Body 3.20x1.60mm, IPC Low Density)
footprint RESC3216X60X45LL10T20 (Chip Resistor, 2-Leads, Body 3.20x1.60mm, IPC High Density)
footprint RESC3216X60X45NL10T20 (Chip Resistor, 2-Leads, Body 3.20x1.60mm, IPC Medium Density)
pins: 1, 2
1 alternate drawing of the same symbol

## CMP-2006-02231-3
designator C?, comment Case Code (Imperial): 0603  Voltage Rating: 50V  Capacitance: 47nF  (hidden comment: GCJ188R71H473KA12D)
Cap Ceramic 47000pF 50V X7R 10% Pad SMD 0603 Soft Termination +125°C Automotive T/R; Ratings: AEC-Q200; Packaging: Tape and Reel; Termination: SMD/SMT; Features: Soft Termination; Min Operating Temperature: -55°C; Package Quantity: 1; Width: 0.031inch; Case Code (Metric): 1608; Max Operating Temperature: 125°C; Voltage Rating (DC): 50V; Tolerance: 10%; Thickness: 0.031inch; Length: 0.063inch; Dielectric: X7R; Mount: Surface Mount; Case/Package: 0603
footprint FP-GCJ188-0_2-MFG
pins: 1, 2

## CMP-2006-02256-2
designator C?, comment C0603C475K9PACTU
CAP CER 4.7UF 6.3V X5R 0603; Manufacturer: Kemet; Temperature Coefficient: 15%; Tolerance: 10%; Material: Ceramic; Device Class L3: Ceramic Capacitors; RoHS: TRUE; Value: 4.7uF; Lead Free: Yes; ComponentLink2Description: Datasheet; Mouser Description: Multilayer Ceramic Capacitors MLCC - SMD/SMT 6.3volts 4.7uF X5R 10%; Package: C0603-CG; Digikey Description: CAP CER 4.7UF 6.3V X5R 0603; ComponentLink2URL: https://content.kemet.com/datasheets/KEM_C1006_X5R_SMD.pdf; Category: Cap; Temperature Range Low: -55°C; Capacitance: 4.7uF; Temperature: -55°C to +85°C; Octopart: https://octopart.com/c0603c475k9pactu-kemet-104242; Ipc Land Pattern Name: CAPC16080X80; Voltage Rating: 6.3V; Temperature Range High: +85°C; Height: 0.9mm; Temperature Characteristic: X5R; Device Class L1: Passive Components; Manufacturer Part Number: C0603C475K9PACTU; Automotive: No; Device Class L2: Capacitors
footprint FP-C0603-CG-IPC_B
footprint FP-C0603-CG-IPC_A
footprint FP-C0603-CG-IPC_C
footprint FP-C0603-CG-MFG
pins: 1, 2

## CMP-2006-02672-1
designator C?, comment GRM1885C1H470JA01D  Capacity: 47pF
Manufacturer: Murata; Part Number: GRM1885C1H470JA01D
footprint CAPC1608X90X35ML10T15 (Chip Capacitor, 2-Leads, Body 1.60x0.80mm, IPC Low Density)
footprint CAPC1608X90X35LL10T15 (Chip Capacitor, 2-Leads, Body 1.60x0.80mm, IPC High Density)
footprint CAPC1608X90X35NL10T15 (Chip Capacitor, 2-Leads, Body 1.60x0.80mm, IPC Medium Density)
pins: 1, 2
1 alternate drawing of the same symbol

## CMP-2100-03642-1
designator C?, comment GRM188R71H103KA01D
Chip Capacitor, 10 nF, +/- 10%, 50 V, -55 to 125 degC, 0603 (1608 Metric), RoHS, Tape and Reel; Manufacturer: Murata; Insulation Resistance: 10GR; Dielectric: X7R; Voltage Rating: 50V; Capacitance: 10nF; Material: Ceramic; Package Quantity: 1; Lead Free: LeadFree; Case/Package: 0603; Termination: SMD/SMT; REACH SVHC: Unknown; Manufacturer URL: http://www.murata.com/; Datasheet URL: http://search.murata.co.jp/Ceramy/image/img/A01X/G101/ENG/GRM188R71H103KA01-01.pdf; Mount: SurfaceMount; Datasheet Version: 42401.0; Number of Pins: 2; Length: 1.6mm; Voltage: 50V; Depth: 0.8mm; Tolerance: 10%; Min Operating Temperature: -55degC; Voltage Rating (DC): 50V; Max Operating Temperature: 125degC; Package Description: 2-Pin Surface Mount Device, Body 1.6 x 0.8 mm; RoHSCompliant: True; Case Code (Imperial): 0603; Width: 0.031inch; Case Code (Metric): 1608; Height: 0.8mm; Package Reference: 0603; Packaging: TapeandReel; Thickness: 0.035inch; Dielectric Material: Ceramic
footprint CAPC1608X90X35LL10T15
footprint CAPC1608X90X35ML10T15 (Chip Capacitor, 2-Leads, Body 1.7x0.9mm, IPC Low Density)
footprint CAPC1608X90X35NL10T15 (Chip Capacitor, 2-Leads, Body 1.7x0.9mm, IPC Medium Density)
pins: 1, 2

## CMP-04768-000005-1
designator J?, comment 208658-1051
CONN RCPT HDMI V2.1 19POS SMD RA
footprint FP-208658-1051-MFG
pins: 1, 2, 3, 4, 5, 6, 7, 8, 9, 10, 11, 12, 13, 14, 15, 16, 17, 18, 19, 20 MNT 1, 21 MNT 2, 22 MNT 3, 23 MNT 4

## CMP-04985-000004-1
designator U?, comment TPD4E05U06QDQARQ1
TVS DIODE 5.5V 14V 10USON; Manufacturer: Texas Instruments; Direction: Unidirectional; Standoff Height: 0mm; Capacitance: 0.5pF; Number Of Channels: 4; Breakdown Voltage: 6.4V; Peak Pulse Power: 2.5W; Automotive Grade: Grade 1; Value: 0.5pF; Interface: USB,Ethernet,LVDS,Other; Peak Pulse Current: 2.5A; Operating Supply Voltage: 5.5V; Reverse Standoff Voltage: 5.5V; Package: DQA0010A; Temperature Range Low: -40°C; Temperature Range High: +125°C; Ambient Temperature Range Low: -40°C; Device Class L1: Circuit Protection; Clamping Voltage: 14V; Manufacturer Part Number: TPD4E05U06QDQARQ1; Device Class L2: ESD and Circuit Protection ICs; Octopart: https://octopart.com/tpd4e05u06qdqarq1-texas+instruments-48523459; Device Class L3: unset; Height: 0.55mm; Automotive: Yes; ComponentLink2Description: Datasheet; RoHS: TRUE; Ambient Temperature Range High: +125°C; Category: IC; Mouser Description: Automotive 4-Channel ESD Protection Solution for SuperSpeed (up to 5 Gbps) Interface 10-USON -40 to 125; Temperature: -40°C to +125°C; ComponentLink2URL: http://www.ti.com/lit/ds/symlink/tpd4e05u06-q1.pdf; Digikey Description: TVS DIODE 5.5V 14V 10USON; Lead Free: Yes
footprint FP-DQA0010A-MFG
pins: 1 D1+ (io), 2 D1- (io), 3 GND (power), 4 D2+ (io), 5 D2- (io), 6 NC, 7 NC, 8 GND (power), 9 NC (io), 10 NC (io)

## CMP-08606-000017-1
designator F?, comment 2920L500/16MR
PTC RESET FUSE 16V 5A 2920; Manufacturer: Littelfuse; Trip Time: 5s; Value: 0.005-0.025Ω; Trip Current: 10A; Current Rating: 40A; Category: Fuse; ComponentLink2URL: https://www.littelfuse.com/~/media/electronics/datasheets/resettable_ptcs/littelfuse_ptc_2920l_datasheet.pdf.pdf; Voltage Rating: 16V; RoHS: TRUE; Manufacturer Part Number: 2920L500/16MR; Ambient Temperature Range High: +85°C; Ambient Temperature Range Low: -40°C; Temperature Range Low: -40°C; Automotive: No; Octopart: https://octopart.com/2920l500%2F16mr-littelfuse-28867177; Resistance: 0.005-0.025Ω; Package: 2920L; Height: 1.6mm; Lead Free: Yes; Device Class L1: Circuit Protection; Temperature: -40°C to +85°C; Mouser Description: PTC Resettable Fuse 5A(hold) 10A(trip) 16VDC 40A 2W 5s 0.005Ohm SMD Solder Pad 7.98 X 5.44 X 1.6mm T/R; Device Class L3: unset; Digikey Description: PTC RESET FUSE 16V 5A 2920; Device Class L2: PTC Resettable Fuses; ComponentLink2Description: Datasheet; Hold Current: 5A; Temperature Range High: +85°C
footprint FP-2920L-MFG
pins: 1, 2

## CMP-08606-000079-1
designator F?, comment 1206L025YR
PTC RESET FUSE 16V 250MA 1206; Resistance: 2.3R; Trip Current: 500mA; Approvals: cULus; Max Current Rating: 100A; Time to Trip: 0.08s; Max Power Dissipation: 600mW; Length: 3.4mm; REACH SVHC: No SVHC; Terminal Material: Copper; Case Code (Imperial): 1206; Packaging: Tape and Reel; Hold Current: 250mA; Min Operating Temperature: -40°C; Termination: SMD/SMT; Lead Free: Lead Free; Series: 1206L; Package Quantity: 4000; Voltage Rating (DC): 16V; Operating Supply Voltage: 16V; Case Code (Metric): 3216; Working Voltage: 16V; Voltage Rating: 16V; RoHS Compliant: Yes; Max Voltage Rating (DC): 16V; Height: 1mm; Current Rating: 100A; Power Dissipation: 600mW; Max Operating Temperature: 85°C; Width: 1.8mm; Case/Package: 1206
footprint FP-1206L025YR-MFG
pins: 1, 2

## CMP-08839-027853-1
designator R?, comment ESR25JZPJ102  Case Code (Imperial): 1210  Resistance: 1kR
RES 1K OHM 5% 1W 1210; Temperature Coefficient: 200ppm/°C; Max Power Dissipation: 500mW; Package Quantity: 1; Case/Package: 1210; Number of Terminations: 2; Width: 0.098inch; Length: 0.126inch; Packaging: Tape and Reel; Resistor Type: Thick Film; Features: Automotive AEC-Q200; Tolerance: 5%; Min Operating Temperature: -55°C; RoHS Compliant: Yes; Max Operating Temperature: 155°C; Series: ESR; Height: 0.026inch; Case Code (Metric): 3225
footprint FP-ESR25-MFG
pins: 1, 2

## CMP-08839-028974-1
designator R?, comment Case/Package: 1210  Resistance: 100R  (hidden comment: ESR25JZPJ101)
RES 100 OHM 5% 1W 1210; Temperature Coefficient: 200ppm/°C; Max Power Dissipation: 500mW; Series: ESR; Features: Automotive AEC-Q200; Height: 0.026inch; Package Quantity: 1; Case Code (Metric): 3225; Resistor Type: Thick Film; Number of Terminations: 2; Min Operating Temperature: -55°C; Case Code (Imperial): 1210; Width: 0.098inch; Length: 0.126inch; RoHS Compliant: Yes; Tolerance: 5%; Packaging: Tape and Reel; Max Operating Temperature: 155°C
footprint FP-ESR25-MFG
pins: 1, 2

## CMP-22017-000005-2
designator D?, comment LTST-C190GKT
LED GREEN CLEAR CHIP SMD; Dominant Wavelength: 569nm; Reverse Voltage: 5V; Lens Color: Colorless; Viewing Angle: 130°; Voltage: 2V; Forward Current: 30mA; Power Dissipation: 100mW; Luminous Intensity: 6mcd; Number of LEDs: 1; Forward Voltage: 2.1V; Wavelength: 565nm; Test Current: 10mA; Min Operating Temperature: -55°C; Lens Style: Clear; Mount: Surface Mount; Width: 0.8mm; Packaging: Tape and Reel; Lens Transparency: Clear; Case Code (Metric): 1608; Depth: 0.8mm; Case Code (Imperial): 0603; Case/Package: 0603; Number of Pins: 2; Max Operating Temperature: 85°C; Lead Free: Lead Free; Number of Elements: 1; Length: 1.6mm; Height: 0.8mm; Package Quantity: 1; Power Rating: 100mW; Radiation Hardening: No; Illumination Color: Green; Color: Green
footprint FP-LTST-C190GKT-MFG
pins: 1 C, 2 A

## CMP-27762-015867-1
designator Y?, comment ABM2-24.000MHZ-D4Y-T
CRYSTAL 24.0000MHZ 18PF SMD; Frequency Stability: 30ppm; ESR (Equivalent Series Resistance): 50R; Frequency: 24MHz; Package Quantity: 1000; RoHS Compliant: Yes; Length: 8mm; Min Operating Temperature: -40°C; Packaging: Tape and Reel; Depth: 4.5mm; Lead Free: Lead Free; Frequency Tolerance: 30ppm; Case/Package: CSMD; Height: 0.063inch; Series: ABM2; Radiation Hardening: No; Max Operating Temperature: 85°C; Termination: SMD/SMT; Tolerance: 30ppm; Mount: Surface Mount; Number of Pins: 2; Resistor Type: Ceramic; Width: 0.177inch; Load Capacitance: 18pF
footprint FP-ABM2-MFG
pins: 1, 2

## CONSMA001-G
designator J?  (value not drawn)
CONN SMA RCPT STR 50 OHM PCB; Value: 50ohm; Package: None; Price: None; MP: CONSMA001-G; Availability: Unavailable
footprint LINX_CONSMA001-G
pins: 1, S1 2, S2 2, S3 2, S4 2

## CPF0603B205KE1
designator *  value 205kR
RES SMD 205K OHM 0.1% 1/16W 0603; Manufacturer: TE Connectivity; Manufacturer Part Number: CPF0603B205KE1; Additional Feature: SEMI PRECISION; Power: 63mW; Temperature Coefficient: 25ppm/°C; Working Voltage: 50V; Package Height: 0.45mm; Package Length: 1.55mm; Package Width: 0.8mm; Supplier: Arrow Electronics; Supplier Part Number: CPF0603B205KE1; RoHS: Yes; Category: Chip SMD Resistors; Stock: 734; Pricing: 1=0.0674, 10=0.0664, 25=0.0653, 50=0.0643, 100=0.0633, 250=0.0622, 500=0.0612 (USD); Mounting Technology: Surface Mount; Pins: 2; Package Shape: Rectangular; Case/Package: 0603; Min Operating Temperature: -55°C; Max Operating Temperature: 155°C; Tolerance: 0.1%; Resistor Type: FIXED RESISTOR; Packaging: Tape and Reel; Technology: THIN FILM; Termination: Wraparound; Construction: Chip; Package Style: SMTMeter; Reach SVHC Compliant: Yes; RoHS Compliant: Yes; ComponentLink1URL: https://www.te.com:443/usa-en/product-6-1879225-4.datasheet.pdf?src-supplier=IHS+Markit; ComponentLink1Description: https://www.te.com:443/usa-en/product-6-1879225-4.datasheet.pdf?src-supplier=IHS+Markit; ComponentLink2URL: https://datasheet.ciiva.com/28562/1723857-28562812.pdf?src-supplier=Element14; ComponentLink2Description: https://datasheet.ciiva.com/28562/1723857-28562812.pdf?src-supplier=Element14; ComponentLink3URL: https://datasheet.ciiva.com/22670/1723857-22670700.pdf?src-supplier=Element14; ComponentLink3Description: https://datasheet.ciiva.com/22670/1723857-22670700.pdf?src-supplier=Element14; ComponentLink4URL: https://datasheet.ciiva.com/12794/eng-ds-1773200-i-12794249.pdf?src-supplier=Mouser; ComponentLink4Description: https://datasheet.ciiva.com/12794/eng-ds-1773200-i-12794249.pdf?src-supplier=Mouser
pins: 1, 2